# EAGLE library part A4000_CPU_MACHO (library a3640_edu_v0.1)
A4000_CPU_MACHO PARA A3640 POR @EDU_ARANA
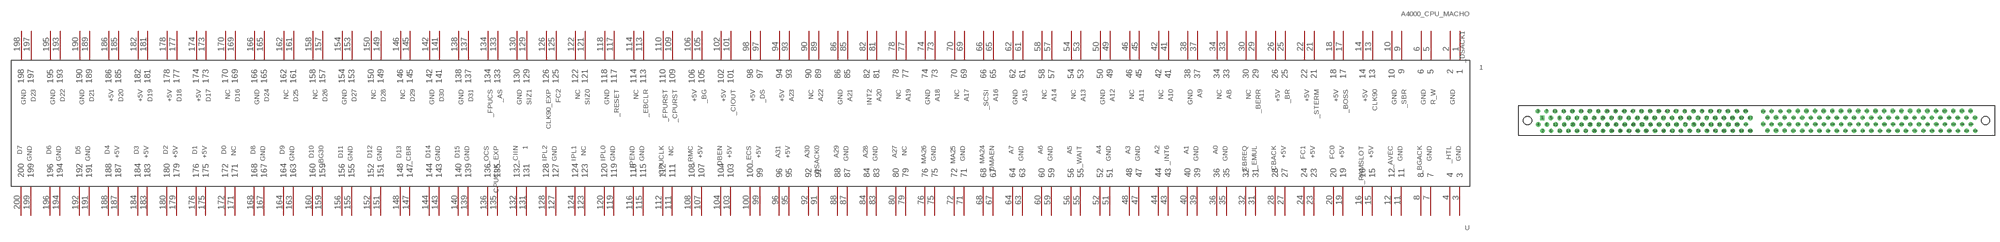
[diagram p8: symbol with the pads of KEL_8817-200-170S_MALE; footprint KEL_8817-200-170S_MALE]

Designator prefix -

## A4000_CPU_MACHO  [KEL_8817-200-170S_MALE]
1  1
2  2
3  3
4  4
5  5
6  6
7  7
8  8
9  9
10  10
11  11
12  12
13  13
14  14
15  15
16  16
17  17
18  18
19  19
20  20
21  21
22  22
23  23
24  24
25  25
26  26
27  27
28  28
29  29
30  30
31  31
32  32
33  33
34  34
35  35
36  36
37  37
38  38
39  39
40  40
41  41
42  42
43  43
44  44
45  45
46  46
47  47
48  48
49  49
50  50
51  51
52  52
53  53
54  54
55  55
56  56
57  57
58  58
59  59
60  60
61  61
62  62
63  63
64  64
65  65
66  66
67  67
68  68
69  69
70  70
71  71
72  72
73  73
74  74
75  75
76  76
77  77
78  78
79  79
80  80
81  81
82  82
83  83
84  84
85  85
86  86
87  87
88  88
89  89
90  90
91  91
92  92
93  93
94  94
95  95
96  96
97  97
98  98
99  99
100  100
101  101
102  102
103  103
104  104
105  105
106  106
107  107
108  108
109  109
110  110
111  111
112  112
113  113
114  114
115  115
116  116
117  117
118  118
119  119
120  120
121  121
122  122
123  123
124  124
125  125
126  126
127  127
128  128
129  129
130  130
131  131
132  132
133  133
134  134
135  135
136  136
137  137
138  138
139  139
140  140
141  141
142  142
143  143
144  144
145  145
146  146
147  147
148  148
149  149
150  150
151  151
152  152
153  153
154  154
155  155
156  156
157  157
158  158
159  159
160  160
161  161
162  162
163  163
164  164
165  165
166  166
167  167
168  168
169  169
170  170
171  171
172  172
173  173
174  174
175  175
176  176
177  177
178  178
179  179
180  180
181  181
182  182
183  183
184  184
185  185
186  186
187  187
188  188
189  189
190  190
191  191
192  192
193  193
194  194
195  195
196  196
197  197
198  198
199  199
200  200

## Footprint KEL_8817-200-170S_MALE (pad centres in mm)
drill 0.8 square: 1 -63.6,0.824
drill 0.8: 2 -63.53,-2.984; 3 -64.942,2.803; 4 -64.813,-1.122; 5 -61.06,0.824; 6 -60.99,-2.984; 7 -62.402,2.803; 8 -62.273,-1.122; 9 -58.52,0.824; 10 -58.45,-2.984; 11 -59.862,2.803; 12 -59.733,-1.122; 13 -55.98,0.824; 14 -55.91,-2.984; 15 -57.322,2.803; 16 -57.193,-1.122; 17 -53.44,0.824; 18 -53.37,-2.984; 19 -54.782,2.803; 20 -54.653,-1.122; 21 -50.9,0.824; 22 -50.83,-2.984; 23 -52.242,2.803; 24 -52.113,-1.122; 25 -48.36,0.824; 26 -48.29,-2.984; 27 -49.702,2.803; 28 -49.573,-1.122; 29 -45.82,0.824; 30 -45.75,-2.984; 31 -47.162,2.803; 32 -47.033,-1.122; 33 -43.28,0.824; 34 -43.21,-2.984; 35 -44.622,2.803; 36 -44.493,-1.122; 37 -40.74,0.824; 38 -40.67,-2.984; 39 -42.082,2.803; 40 -41.953,-1.122; 41 -38.2,0.824; 42 -38.13,-2.984; 43 -39.542,2.803; 44 -39.413,-1.122; 45 -35.66,0.824; 46 -35.59,-2.984; 47 -37.002,2.803; 48 -36.873,-1.122; 49 -33.12,0.824; 50 -33.05,-2.984; 51 -34.462,2.803; 52 -34.333,-1.122; 53 -30.58,0.824; 54 -30.51,-2.984; 55 -31.922,2.803; 56 -31.793,-1.122; 57 -28.04,0.824; 58 -27.97,-2.984; 59 -29.382,2.803; 60 -29.253,-1.122; 61 -25.5,0.824; 62 -25.43,-2.984; 63 -26.842,2.803; 64 -26.713,-1.122; 65 -22.96,0.824; 66 -22.89,-2.984; 67 -24.302,2.803; 68 -24.173,-1.122; 69 -20.42,0.824; 70 -20.35,-2.984; 71 -21.762,2.803; 72 -21.633,-1.122; 73 -17.88,0.824; 74 -17.81,-2.984; 75 -19.222,2.803; 76 -19.093,-1.122; 77 -15.34,0.824; 78 -15.27,-2.984; 79 -16.682,2.803; 80 -16.553,-1.122; 81 -12.8,0.824; 82 -12.73,-2.984; 83 -14.142,2.803; 84 -14.013,-1.122; 85 -10.26,0.824; 86 -10.19,-2.984; 87 -11.602,2.803; 88 -11.473,-1.122; 89 -7.72,0.824; 90 -7.65,-2.984; 91 -9.062,2.803; 92 -8.933,-1.122; 93 -5.077,0.837; 94 -5.08,-2.993; 95 -6.397,2.802; 96 -6.35,-1.089; 97 -2.505,0.831; 98 -2.52,-2.975; 99 -3.824,2.792; 100 -3.807,-1.083; 101 2.525,0.907; 102 2.525,-2.891; 103 1.275,2.741; 104 1.275,-1.013; 105 5.07,0.907; 106 5.048,-2.891; 107 3.755,2.763; 108 3.755,-1.035; 109 7.572,0.907; 110 7.593,-2.891; 111 6.385,2.806; 112 6.299,-1.035; 113 10.202,0.864; 114 10.159,-2.977; 115 8.875,2.801; 116 8.865,-1.057; 117 12.716,0.848; 118 12.759,-3.001; 119 11.41,2.828; 120 11.508,-1.055; 121 15.256,0.848; 122 15.299,-3.001; 123 13.95,2.828; 124 14.048,-1.055; 125 17.796,0.848; 126 17.839,-3.001; 127 16.49,2.828; 128 16.588,-1.055; 129 20.336,0.848; 130 20.379,-3.001; 131 19.03,2.828; 132 19.128,-1.055; 133 22.876,0.848; 134 22.919,-3.001; 135 21.57,2.828; 136 21.668,-1.055; 137 25.416,0.848; 138 25.459,-3.001; 139 24.11,2.828; 140 24.208,-1.055; 141 27.956,0.848; 142 27.999,-3.001; 143 26.65,2.828; 144 26.748,-1.055; 145 30.496,0.848; 146 30.539,-3.001; 147 29.19,2.828; 148 29.288,-1.055; 149 33.036,0.848; 150 33.079,-3.001; 151 31.73,2.828; 152 31.828,-1.055; 153 35.576,0.848; 154 35.619,-3.001; 155 34.27,2.828; 156 34.368,-1.055; 157 38.116,0.848; 158 38.159,-3.001; 159 36.81,2.828; 160 36.908,-1.055; 161 40.656,0.848; 162 40.699,-3.001; 163 39.35,2.828; 164 39.448,-1.055; 165 43.196,0.848; 166 43.239,-3.001; 167 41.89,2.828; 168 41.988,-1.055; 169 45.736,0.848; 170 45.779,-3.001; 171 44.43,2.828; 172 44.528,-1.055; 173 48.276,0.848; 174 48.319,-3.001; 175 46.97,2.828; 176 47.068,-1.055; 177 50.816,0.848; 178 50.859,-3.001; 179 49.51,2.828; 180 49.608,-1.055; 181 53.356,0.848; 182 53.399,-3.001; 183 52.05,2.828; 184 52.148,-1.055; 185 55.896,0.848; 186 55.939,-3.001; 187 54.59,2.828; 188 54.688,-1.055; 189 58.436,0.848; 190 58.479,-3.001; 191 57.13,2.828; 192 57.228,-1.055; 193 60.976,0.848; 194 61.019,-3.001; 195 59.67,2.828; 196 59.768,-1.055; 197 63.516,0.848; 198 63.559,-3.001; 199 62.21,2.828; 200 62.308,-1.055
hole 2.362 at 66.633,0.042
hole 2.362 at -67.95,0.042